# EAGLE library part DRV8830 (library pimoroni-ics)
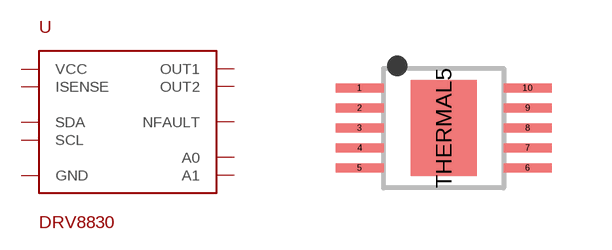
[diagram p19: symbol with the pads of HTSSOP10; footprint HTSSOP10]

Designator prefix -

## DRV8830  [HTSSOP10]
1  OUT2
2  ISENSE
3  OUT1
4  VCC
5  GND
6  NFAULT
7  A0
8  A1
9  SDA
10  SCL
THERMAL5  GND

## Footprint HTSSOP10 (pad centres in mm)
smd 1.2 x 0.23: 1 -2.1,1; 2 -2.1,0.5; 3 -2.1,0; 4 -2.1,-0.5; 5 -2.1,-1; 6 2.1,-1; 7 2.1,-0.5; 8 2.1,0; 9 2.1,0.5; 10 2.1,1
smd 1.65 x 2.4: THERMAL5 0,0